# Altium footprint library STM32F103VET6.PcbLib: 79 footprints (part 4 of 5)
Each footprint in its own frame and in the unit in brackets; x right, y up, seen from the top. Pads: shape width x height; smd on the part's side, far side on the other; paste and mask are expansions set on the pad; w line width, h text height; cw(c..) or ccw(c..) is an arc to the next point about the centre after c.
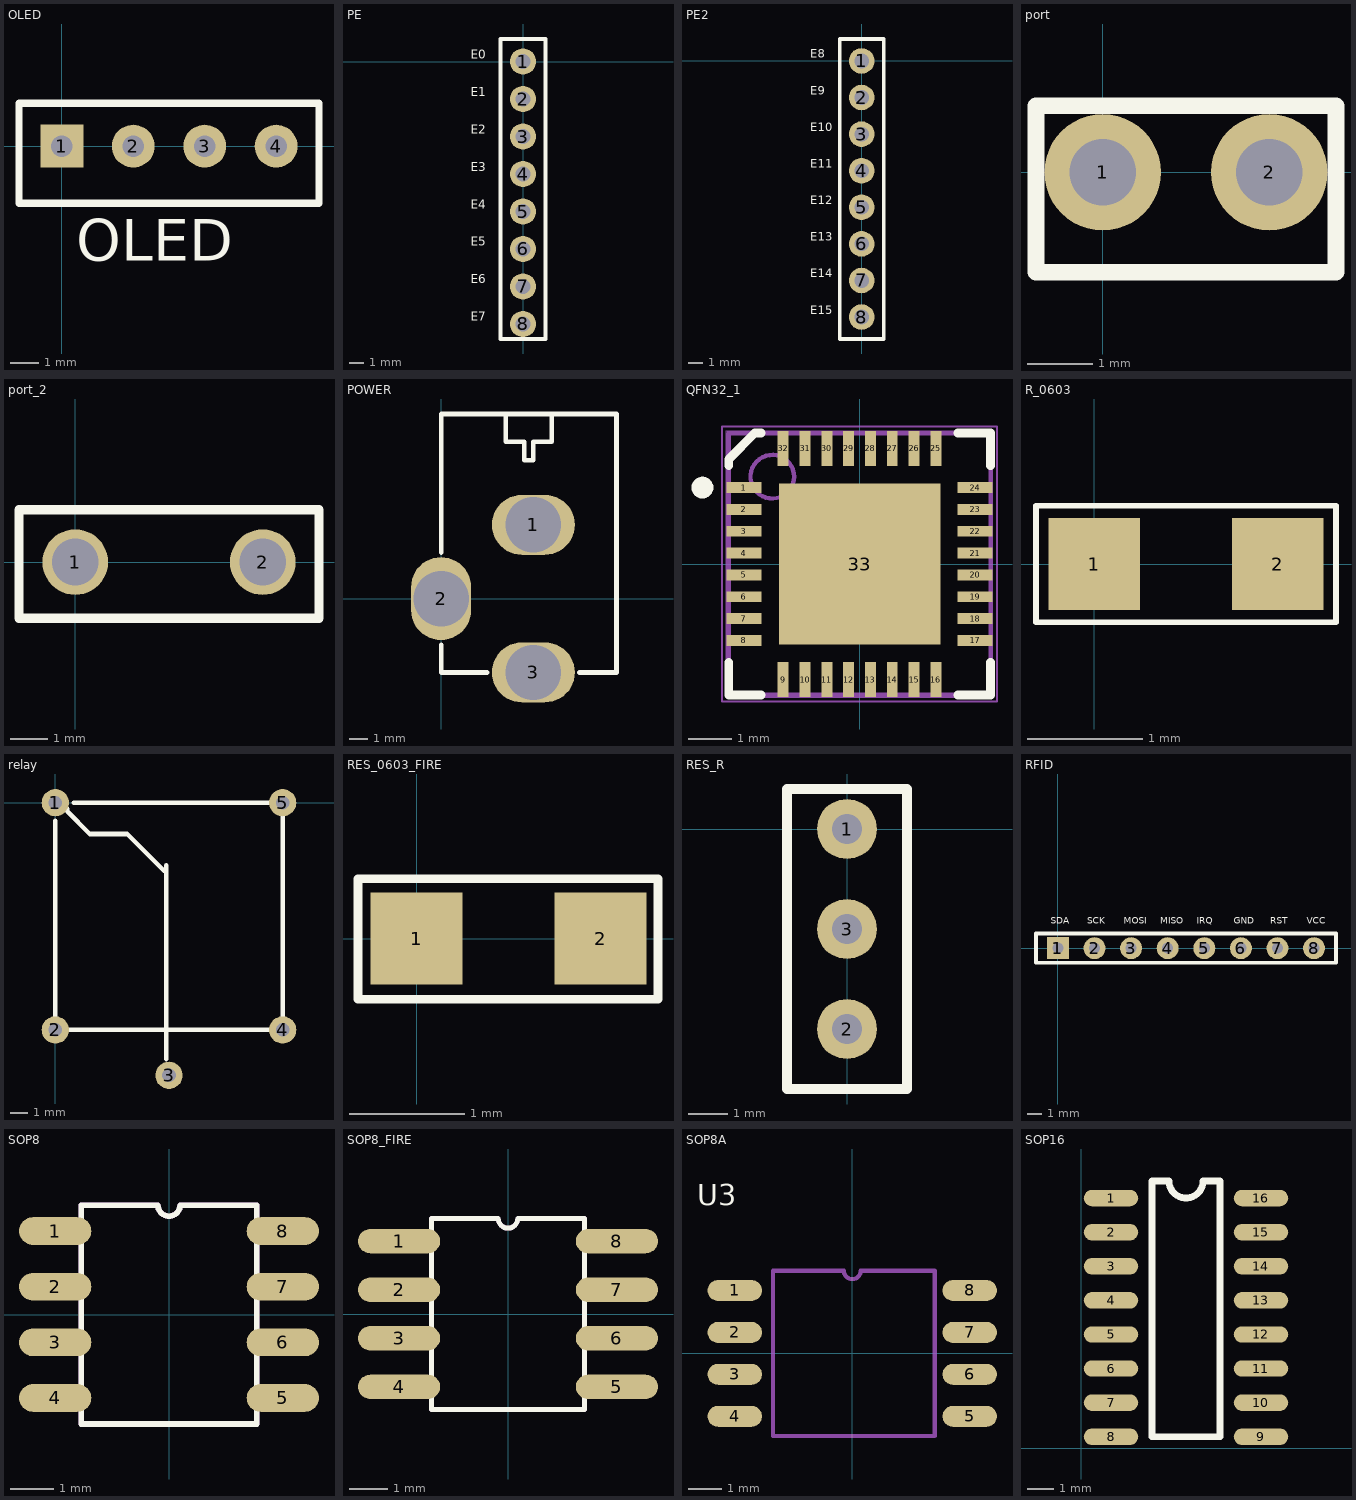
[diagram p3: the footprints below, top view; thin cyan lines are the x and y axes]

## OLED [mil]
pads (4):
  rect 60x60 hole 30: 1(0,0)
  round 60 hole 30: 2(100,0) 3(200,0) 4(300,0)
Top Overlay:
  lines w10: -60,-80 -60,60 360,60 360,-80 -60,-80
  text "OLED" at 20,-180 h100

## PE [mil]
pads (8):
  round 70 hole 40: 1(0,0) 2(0,-100) 3(0,-200) 4(0,-300) 5(0,-400) 6(0,-500) 7(0,-600) 8(0,-700)
Top Overlay:
  lines w10: -60,-740 -60,60 60,60 60,-740 -60,-740
  text "E0" at -140,0 h40
  text "E1" at -140,-100 h40
  text "E2" at -140,-200 h40
  text "E3" at -140,-300 h40
  text "E4" at -140,-400 h40
  text "E5" at -140,-500 h40
  text "E6" at -140,-600 h40
  text "E7" at -140,-700 h40

## PE2 [mil]
pads (8):
  round 70 hole 40: 1(0,0) 2(0,-100) 3(0,-200) 4(0,-300) 5(0,-400) 6(0,-500) 7(0,-600) 8(0,-700)
Top Overlay:
  lines w10: -60,-760 40,-760 60,-760 60,60 -60,60 -60,-760
  text "E15" at -140,-700 h40
  text "E14" at -140,-600 h40
  text "E13" at -140,-500 h40
  text "E12" at -140,-400 h40
  text "E11" at -140,-300 h40
  text "E10" at -140,-200 h40
  text "E9" at -140,-100 h40
  text "E8" at -140,0 h40

## port [mil]
pads (2):
  round 70 hole 40: 1(0,0) 2(100,0)
Top Overlay:
  lines w10: -40,-60 -40,40 140,40 140,-60 -40,-60

## port_2 [mil]
pads (2):
  round 70 hole 50: 1(0,0) 2(200,0)
Top Overlay:
  lines w10: -60,-60 260,-60 260,56 -60,56 -60,-60

## POWER [mil]
pads (3):
  oval 180x130 hole 120: 1(200,160) 3(200,-160)
  oval 130x180 hole 120: 2(0,0)
Top Overlay:
  lines w10: 0,-100 0,-160 100,-160 ; 0,100 0,400 380,400 380,-160 300,-160 ; 140,400 140,340 180,340 180,300 200,300 200,340 240,340 240,380 240,400

## QFN32_1 [mm]
height 0.8
pads (33):
  rect 0.8x0.25 smd: 1(-2.65,1.75) 2(-2.65,1.25) 3(-2.65,0.75) 4(-2.65,0.25) 5(-2.65,-0.25) 6(-2.65,-0.75) 7(-2.65,-1.25) 8(-2.65,-1.75) 17(2.65,-1.75) 18(2.65,-1.25) 19(2.65,-0.75) 20(2.65,-0.25) 21(2.65,0.25) 22(2.65,0.75) 23(2.65,1.25) 24(2.65,1.75)
  rect 0.25x0.8 smd: 9(-1.75,-2.65) 10(-1.25,-2.65) 11(-0.75,-2.65) 12(-0.25,-2.65) 13(0.25,-2.65) 14(0.75,-2.65) 15(1.25,-2.65) 16(1.75,-2.65) 25(1.75,2.65) 26(1.25,2.65) 27(0.75,2.65) 28(0.25,2.65) 29(-0.25,2.65) 30(-0.75,2.65) 31(-1.25,2.65) 32(-1.75,2.65)
  rect 3.7x3.7 smd paste-0.49: 33(0,0)
Top Overlay:
  circle w0.25: c-3.6,1.75 r0.125
  lines w0.2: -3,-2.25 -3,-3 -2.25,-3 ; -3,2.25 -3,2.4 -2.4,3 -2.25,3 ; 2.25,-3 3,-3 3,-2.25 ; 2.25,3 3,3 3,2.25
Mechanical 1:
  circle w0.1: c-2,2 r0.5
  lines w0.1: -3,-3 3,-3 3,3 -3,3 -3,-3
Mechanical 16:
  circle w0.05: c0,0 r0.35
  lines w0.001: -3.05,-3.05 3.05,-3.05 3.05,3.05 -3.05,3.05 -3.05,-3.05
  lines w0.05: -0.5,0 0.5,0 ; 0,-0.5 0,0.5 ; -3.15,-3.15 3.15,-3.15 3.15,3.15 -3.15,3.15 -3.15,-3.15

## R_0603 [mm]
pads (2):
  rect 0.8x0.8 smd: 1(0,0) 2(1.6,0)
Top Overlay:
  lines w0.051: -0.508,-0.508 2.108,-0.508 2.108,0.508 -0.508,0.508 -0.508,-0.508

## relay [mil]
pads (5):
  round 60 hole 30: 1(0,0) 2(0,-500) 3(250,-600) 4(500,-500) 5(500,0)
Top Overlay:
  lines w10: 0,-470 0,-40 ; 26,-13 26,-19 76,-69 158,-69 239,-150 244,-150 ; 30,-500 170,-500 ; 40,0 470,0 ; 160,-500 190,-500 ; 180,-500 470,-500 ; 244,-564 244,-519 244,-276 244,-138 ; 500,-470 500,-30

## RES_0603_FIRE [mm]
pads (2):
  rect 0.8x0.8 smd: 1(0,0) 2(1.6,0)
Top Overlay:
  lines w0.076: -0.51,-0.528 2.099,-0.528 2.099,0.52 -0.51,0.52 -0.51,-0.528

## RES_R [mil]
pads (3):
  round 60 hole 30: 1(0,0) 2(0,-200) 3(0,-100)
Top Overlay:
  lines w10: -60,-260 60,-260 60,40 -60,40 -60,-260

## RFID [mil]
pads (8):
  rect 60x60 hole 30: 1(0,0)
  round 60 hole 30: 2(100,0) 3(200,0) 4(300,0) 5(400,0) 6(500,0) 7(600,0) 8(700,0)
Top Overlay:
  lines w10: -60,-40 -60,40 760,40 760,-40 -60,-40
  text "SDA" at -20,60 h30
  text "SCK" at 80,60 h30
  text "MOSI" at 180,60 h30
  text "MISO" at 280,60 h30
  text "IRQ" at 380,60 h30
  text "GND" at 480,60 h30
  text "RST" at 580,60 h30
  text "VCC" at 680,60 h30

## SOP8 [mm]
pads (8):
  oval 1.651x0.635 smd: 1(-2.6,1.905) 2(-2.6,0.635) 3(-2.6,-0.635) 4(-2.6,-1.905) 5(2.6,-1.905) 6(2.6,-0.635) 7(2.6,0.635) 8(2.6,1.905)
Top Overlay:
  lines w0.127: -2,-2.5 2,-2.5 2,2.5 0.254,2.5 cw(c0,2.5) -0.254,2.5 -2,2.5 -2,-2.5
Mechanical 1:
  lines w0.127: -2,-2.5 2,-2.5 2,2.5 0.254,2.5 cw(c0,2.5) -0.254,2.5 -2,2.5 -2,-2.5

## SOP8_FIRE [mm]
pads (8):
  oval 2.151x0.635 smd: 1(-2.85,1.905) 2(-2.85,0.635) 3(-2.85,-0.635) 4(-2.85,-1.905) 5(2.85,-1.905) 6(2.85,-0.635) 7(2.85,0.635) 8(2.85,1.905)
Top Overlay:
  lines w0.127: -2,-2.5 2,-2.5 2,2.5 0.254,2.5 cw(c0,2.5) -0.254,2.5 -2,2.5 -2,-2.5
Mechanical 1:
  lines w0.127: -2,-2.5 2,-2.5 2,2.5 0.254,2.5 cw(c0,2.5) -0.254,2.5 -2,2.5 -2,-2.5

## SOP8A [mil]
pads (8):
  oval 65x25 smd: 1(-140,75) 2(-140,25) 3(-140,-25) 4(-140,-75) 5(140,-75) 6(140,-25) 7(140,25) 8(140,75)
Top Overlay:
  text "U3" at -185.04,176.31 h25
Mechanical 1:
  lines w5: -94.49,-98.43 98.43,-98.43 98.43,98.43 10,98.43 cw(c0,98.43) -10,98.43 -94.49,98.43 -94.49,-98.43

## SOP16 [mil]
pads (16):
  oval 80x24 smd: 1(44,367) 2(44,317) 3(44,267) 4(44,217) 5(44,167) 6(44,117) 7(44,67) 8(44,17) 9(264,17) 10(264,67) 11(264,117) 12(264,167) 13(264,217) 14(264,267) 15(264,317) 16(264,367)
Top Overlay:
  lines w10: 104,17 204,17 204,392 179,392 cw(c154,392) 129,392 104,392 104,17